# EAGLE library part M80-5100642 (library nose-cone)
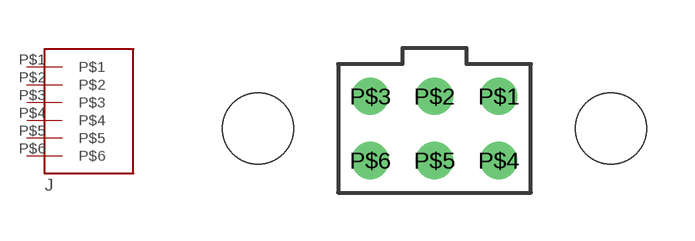
[diagram p3: symbol with the pads of M80-5100642; footprint M80-5100642]

Designator prefix J

## M80-5100642  [M80-5100642]
P$1  P$1
P$2  P$2
P$3  P$3
P$4  P$4
P$5  P$5
P$6  P$6

## Footprint M80-5100642 (pad centres in mm)
drill 0.65: P$1 2,1; P$2 0,1; P$3 -2,1; P$4 2,-1; P$5 0,-1; P$6 -2,-1
hole 2.2 at -5.5,0
hole 2.2 at 5.5,0